# Altium footprint library SMPS PcbLib.PcbLib: 33 footprints (part 1 of 3)
Each footprint in its own frame and in the unit in brackets; x right, y up, seen from the top. Pads: shape width x height; smd on the part's side, far side on the other; paste and mask are expansions set on the pad; w line width, h text height; cw(c..) or ccw(c..) is an arc to the next point about the centre after c.
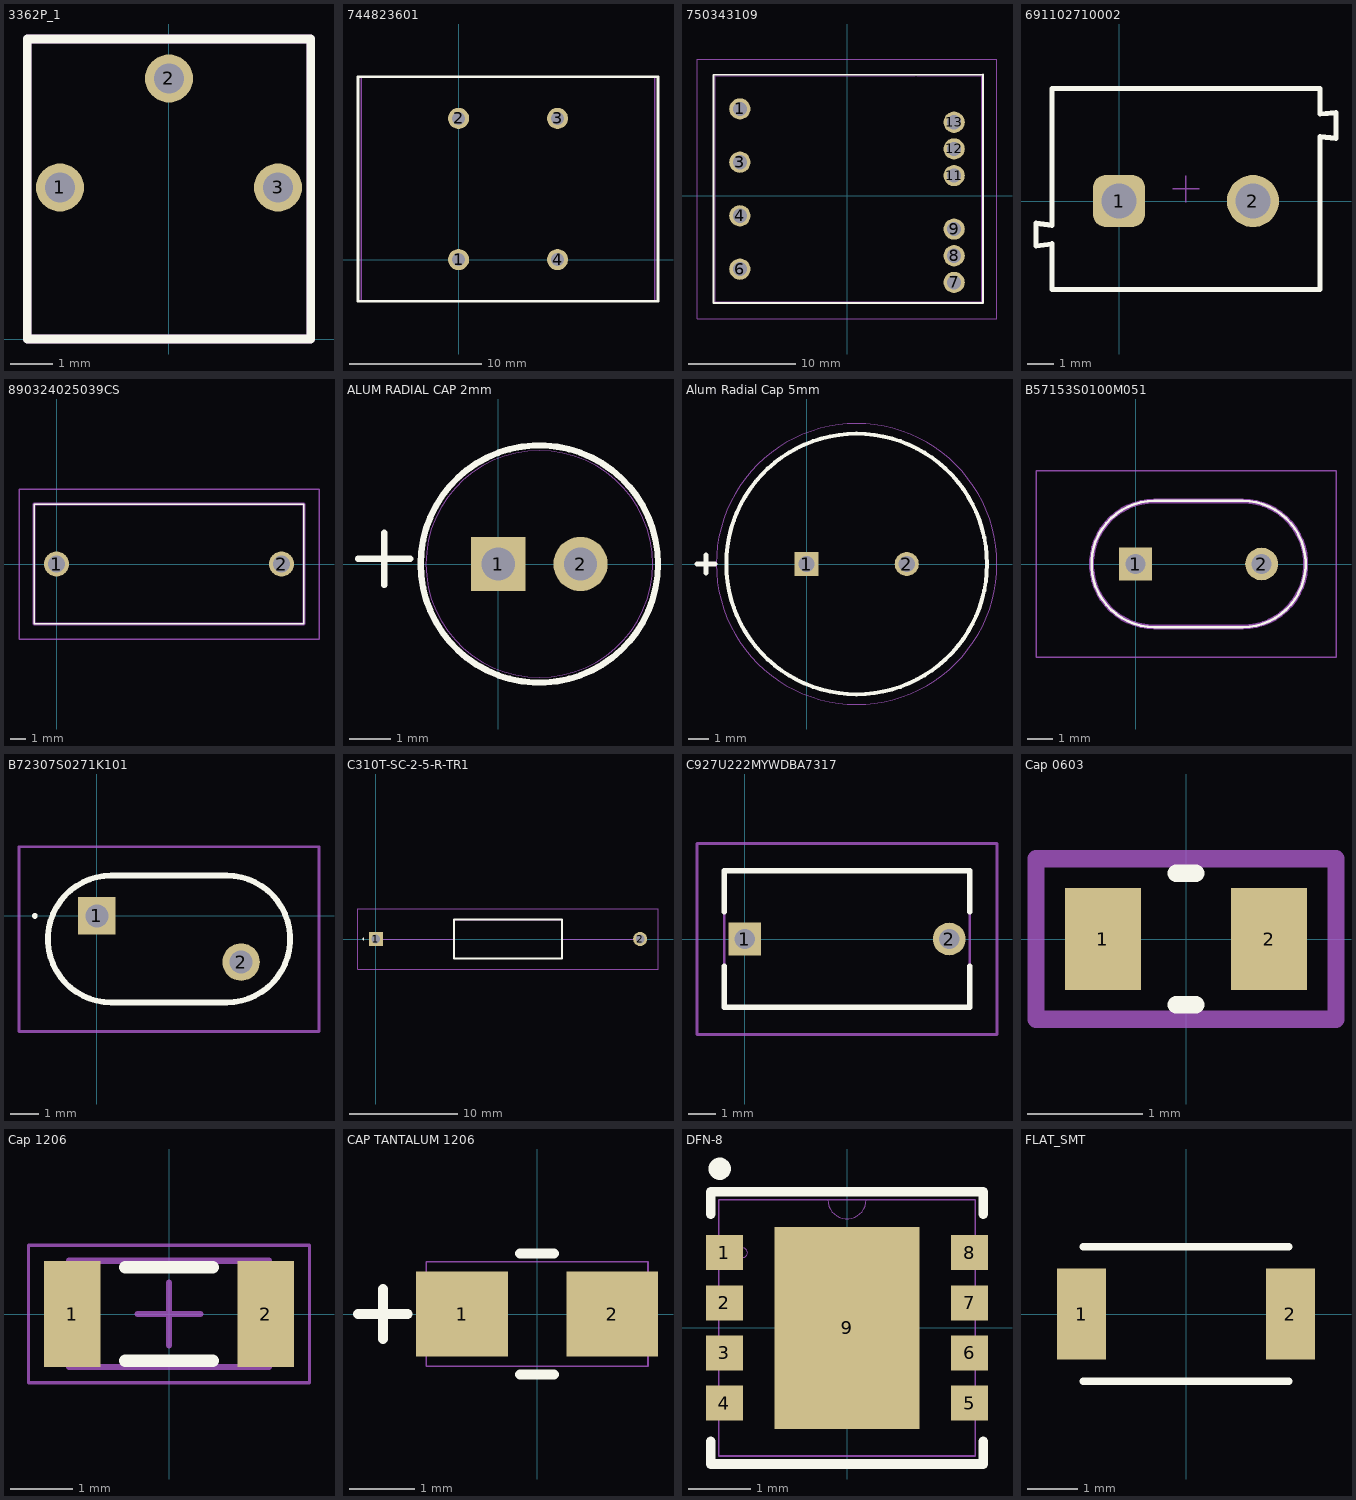
[diagram p0: the footprints below, top view; thin cyan lines are the x and y axes]

## 3362P_1 [mm]
pads (3):
  round 1.12 hole 0.69: 1(-2.54,3.53) 2(0,6.07) 3(2.54,3.53)
Top Overlay:
  lines w0.2: -3.3,0 -3.3,6.99 3.3,6.99 3.3,0 -3.3,0
Top Courtyard:
  lines w0.2: -3.3,0 3.3,0 3.3,6.99 -3.3,6.99 -3.3,0
3D body "3362P-1-103LF.stp": height 4.74, standoff -4.76, extent -3.3,-0.03 3.3,6.96

## 744823601 [mm]
pads (4):
  round 1.6 hole 1: 1(0,0) 2(0,10.7) 3(7.5,10.7) 4(7.5,0)
Top Overlay:
  lines w0.2: -7.62,-3.15 -7.62,13.85 15.113,13.85 15.113,-3.15 -7.62,-3.15
Mechanical 1:
  lines w0.1: -7.366,-3.15 -7.366,13.85 14.859,13.85 14.859,-3.15 -7.366,-3.15
3D body "744823601.stp": height 26.51, standoff -2.99, extent -7.299,-3.15 14.799,13.85

## 750343109 [mm]
pads (10):
  round 1.98 hole 1.32: 1(-10,8.1) 3(-10,3.12) 4(-10,-1.88) 6(-10,-6.86) 7(10,-8.1) 8(10,-5.61) 9(10,-3.12) 11(10,1.87) 12(10,4.36) 13(10,6.85)
Top Overlay:
  lines w0.2: -12.446,-10.033 -12.446,11.267 12.7,11.303 12.7,-10.033 -12.446,-10.033
Top Courtyard:
  lines w0.1: -6.627,11.212 6.373,11.212 ; -6.5,11.176 -12.319,11.176 -12.319,-9.906 12.573,-9.906 12.573,11.176 6.5,11.176
Mechanical 20:
  lines w0.1: -14,-11.48 -14,12.72 14,12.72 14,-11.48 -14,-11.48
3D body "Download_STP_070-5643_MP2-5-10-14 (rev1).STEP": height 15.72, standoff -3.19, extent -12.323,-9.944 12.577,11.176

## 691102710002 [mm]
pads (2):
  rrect50% 1.95x1.95 hole 1.3: 1(0,0)
  round 1.95 hole 1.3: 2(5,0)
Top Overlay:
  lines w0.2: -3.1,-1.675 -2.5,-1.6 -2.5,-3.3 7.5,-3.3 7.5,2.4 8.1,2.35 8.1,3.3 7.5,3.25 7.5,4.2 -2.5,4.2 -2.5,-0.9 -3.1,-0.825 -3.1,-1.675
Top Component Outline:
  lines w0.1: -3.1,-1.675 -3.1,-0.825 -2.5,-0.9 -2.5,4.2 7.5,4.2 7.5,3.25 8.1,3.3 8.1,2.35 7.5,2.4 7.5,-3.3 -2.5,-3.3 -2.5,-1.6 -3.1,-1.675
Top 3D Body:
  lines w0.1: -3.1,-1.675 -2.5,-1.6 -2.5,-3.3 7.5,-3.3 7.5,2.4 8.1,2.35 8.1,3.3 7.5,3.25 7.5,4.2 -2.5,4.2 -2.5,-0.9 -3.1,-0.825 -3.1,-1.675
Top Courtyard:
  lines w0.05: 2,0.45 3,0.45 ; 2.5,-0.05 2.5,0.95
3D body "691102710002.stp": height 9.96, standoff -3.44, extent -3.1,-3.3 8.1,4.2

## 890324025039CS [mm]
pads (2):
  round 1.65 hole 1.1: 1(0,0) 2(15,0)
Top Overlay:
  lines w0.1: -1.5,-4 -1.5,4 16.5,4 16.5,-4 -1.5,-4
Top Courtyard:
  lines w0.2: -1.5,-4 -1.5,4 16.5,4 16.5,-4 -1.5,-4
Mechanical 20:
  lines w0.1: -2.5,-5 -2.5,5 17.5,5 17.5,-5 -2.5,-5
3D body "890324025039CS.stp": height 14.6, standoff -5, extent -1.5,-4 16.5,4

## ALUM RADIAL CAP 2mm [mil]
pads (2):
  rect 52x52 / inner round 60 / far side rect 52x52 hole 32 paste-26 mask+0: 1(0,0)
  round 52 / inner round 60 / far side round 52 hole 32 paste-26 mask+0: 2(78.74,0)
Top Overlay:
  circle w6: c39.37,0 r113.5
  lines w6: -134.13,5 -84.13,5 ; -109.13,-20 -109.13,30
Top 3D Body:
  circle w0: c39.37,0 r108.5
  lines w1: -134.13,5 -84.13,5 ; -109.13,-20 -109.13,30
3D body "CAP_ATLL_05p0X11p0_WRE.step": height 492.6, standoff -165.98, extent -69.13,-108.5 149.03,108.5

## Alum Radial Cap 5mm [mm]
pads (2):
  rect 1.2x1.2 / inner round 1.2 / far side rect 1.2x1.2 hole 0.8: 1(0,0)
  round 1.2 hole 0.8: 2(5,0)
Top Overlay:
  circle w0.2: c2.5,0 r6.5
  lines w0.254: -5.461,0 -4.572,0 ; -5.017,-0.439 -5.017,0.45
Top Courtyard:
  circle w0.1: c2.5,0 r6.5
Mechanical 20:
  circle w0.05: c2.5,0 r7
3D body "860021378014.stp": height 21.5, standoff -10, extent -4.25,-6.747 9.25,6.747

## B57153S0100M051 [mm]
pads (2):
  rect 1.3x1.3 / inner round 1.3 / far side rect 1.3x1.3 hole 0.8: 1(0,0)
  round 1.3 hole 0.8: 2(5,0)
Top Overlay:
  lines w0.1: 0.75,-2.5 cw(c0.75,0) 0.75,2.5 4.25,2.5 cw(c4.25,0) 4.25,-2.5 0.75,-2.5
Top Courtyard:
  lines w0.2: 0.75,-2.5 cw(c0.75,0) 0.75,2.5 4.25,2.5 cw(c4.25,0) 4.25,-2.5 0.75,-2.5
Mechanical 20:
  lines w0.05: -3.95,-3.7 -3.95,3.7 7.95,3.7 7.95,-3.7 -3.95,-3.7
3D body "B57153S0100M051.stp": height 14.71, standoff -26.81, extent -1.778,-2.548 6.713,2.548

## B72307S0271K101 [mm]
pads (2):
  rect 1.3x1.3 hole 0.8: 1(0,0)
  round 1.3 hole 0.8: 2(5,-1.6)
Top Overlay:
  lines w0.1: -2.2,0 ccw(c-2.15,0) -2.1,0 ccw(c-2.15,0) -2.2,0
  lines w0.2: 0.5,-3 cw(c0.5,-0.8) 0.5,1.4 4.5,1.4 cw(c4.5,-0.8) 4.5,-3 0.5,-3
Top Courtyard:
  lines w0.1: 0.5,-3 cw(c0.5,-0.8) 0.5,1.4 4.5,1.4 cw(c4.5,-0.8) 4.5,-3 0.5,-3
Mechanical 20:
  lines w0.1: -2.7,-4 7.7,-4 7.7,2.4 -2.7,2.4 -2.7,-4
3D body "B72307S0271K101.stp": height 14.66, standoff -21.34, extent -1.709,-2.875 6.789,1.524

## C310T-SC-2-5-R-TR1 [mm]
pads (2):
  rect 1.3x1.3 hole 0.8: 1(0,0)
  round 1.3 hole 0.8: 2(24.4,0)
Top Overlay:
  lines w0.1: -1.2,0 ccw(c-1.15,0) -1.1,0 ccw(c-1.15,0) -1.2,0
  lines w0.2: 7.2,-1.8 17.2,-1.8 17.2,1.8 7.2,1.8 7.2,-1.8
Top Courtyard:
  lines w0.1: 0,0 7.2,0 ; 17.2,0 24.4,0 ; 7.2,-1.8 17.2,-1.8 17.2,1.8 7.2,1.8 7.2,-1.8
Mechanical 20:
  lines w0.1: -1.65,-2.8 26.05,-2.8 26.05,2.8 -1.65,2.8 -1.65,-2.8
3D body "Fuse.STEP": height 5.5, standoff -10, extent -0.25,-2.5 24.65,2.5

## C927U222MYWDBA7317 [mm]
pads (2):
  rect 1.2x1.2 hole 0.75: 1(0,0)
  round 1.2 hole 0.75: 2(7.5,0)
Top Overlay:
  lines w0.2: -0.75,-1 -0.75,-2.5 8.25,-2.5 8.25,-1 ; -0.75,1 -0.75,2.5 8.25,2.5 8.25,1
Top Courtyard:
  lines w0.1: -0.75,-2.5 -0.75,2.5 8.25,2.5 8.25,-2.5 -0.75,-2.5
Mechanical 20:
  lines w0.1: -1.75,-3.5 -1.75,3.5 9.25,3.5 9.25,-3.5 -1.75,-3.5
3D body "C927U222MYWDBA7317.stp": height 14.66, standoff -18.14, extent -0.753,-2.463 8.247,2.54

## Cap 0603 [mil]
pads (2):
  rect 26x35 smd paste+0 mask+0: 1(-28.5,0) 2(28.5,0)
Top Overlay:
  lines w6: -3.39,-22.5 3.39,-22.5 ; -3.39,22.5 3.39,22.5
Top Courtyard:
  lines w6: -51.5,-27.5 -51.5,27.5 51.5,27.5 51.5,-27.5 -51.5,-27.5
3D body "RES_KDV06_OHM.step": height 22.01, standoff 0, extent -33.5,-17.48 33.5,17.48

## Cap 1206 [mm] "Chip Resistor, 2-Leads, Body 3.20x1.65mm, IPC Medium Density"
height 0.56
pads (2):
  rect 0.9x1.7 smd: 1(-1.55,0) 2(1.55,0)
Top Overlay:
  lines w0.2: -0.7,-0.75 0.7,-0.75 ; -0.7,0.75 0.7,0.75
Top Assembly:
  lines w0.1: -1.6,-0.85 -1.6,0.85 1.6,0.85 1.6,-0.85 -1.6,-0.85
Top Courtyard:
  lines w0.05: -2.25,-1.1 -2.25,1.1 2.25,1.1 2.25,-1.1 -2.25,-1.1
  lines w0.1: -0.5,0 0.5,0 ; 0,-0.5 0,0.5
3D body "RESC3216X06N.step": height 0.56, standoff 0, extent -1.6,-0.85 1.6,0.85

## CAP TANTALUM 1206 [mm]
pads (2):
  rect 1.405x1.3 smd paste+0 mask+0: 1(-1.15,0) 2(1.15,0)
Top Overlay:
  lines w0.152: -2.743,0 -1.981,0 ; -2.362,-0.381 -2.362,0.381 ; -0.263,-0.927 0.263,-0.927 ; -0.263,0.927 0.263,0.927
Top 3D Body:
  lines w0.025: -2.743,0 -1.981,0 ; -2.362,-0.381 -2.362,0.381 ; -1.7,-0.8 -1.7,0.8 1.7,0.8 1.7,-0.8 -1.7,-0.8
3D body "CAPMP34X16_18N_KEM.step": height 1.85, standoff 0, extent -1.7,-0.8 1.7,0.8

## DFN-8 [mil]
pads (9):
  rect 23x22 smd paste+0 mask+0: 1(-77,47.25) 2(-77,15.75) 3(-77,-15.75) 4(-77,-47.25) 5(77,-47.25) 6(77,-15.75) 7(77,15.75) 8(77,47.25)
  rect 91x127 smd paste+0 mask+0: 9(0,0)
Top Overlay:
  circle w8: c-80,100 r3
  lines w6: -85.5,-71.35 -85.5,-85.5 85.5,-85.5 85.5,-71.35 ; -85.5,71.35 -85.5,85.5 85.5,85.5 85.5,71.35
Top Paste:
  region: 41.56,-3.94 -41.56,-3.94 -41.56,-59.56 41.56,-59.56
  region: 41.56,59.56 -41.56,59.56 -41.56,3.94 41.56,3.94
Top 3D Body:
  circle w0: c-65.5,47.25 r3
  lines w0: -12,80.5 ccw(c0,80.5) 12,80.5
  lines w1: -80.5,-80.5 -80.5,80.5 80.5,80.5 80.5,-80.5 -80.5,-80.5
3D body "SON_0DPUR_STM.step": height 39.09, standoff 0, extent -80.51,-80.51 80.51,80.51

## FLAT_SMT [mil]
pads (2):
  rect 38x71 smd paste+0 mask+0: 1(-81.5,0) 2(81.5,0)
Top Overlay:
  lines w6: -80,-52.5 80,-52.5 ; -80,52.5 80,52.5
Top 3D Body:
3D body "M-FLAT_TOS.step": height 43.27, standoff 0, extent -96.5,-47.48 96.5,47.48